# Altium footprint library CON_Vertical 20X2_Ribbon.PcbLib: 1 footprints
Each footprint in its own frame and in the unit in brackets; x right, y up, seen from the top. Pads: shape width x height; smd on the part's side, far side on the other; paste and mask are expansions set on the pad; w line width, h text height; cw(c..) or ccw(c..) is an arc to the next point about the centre after c.
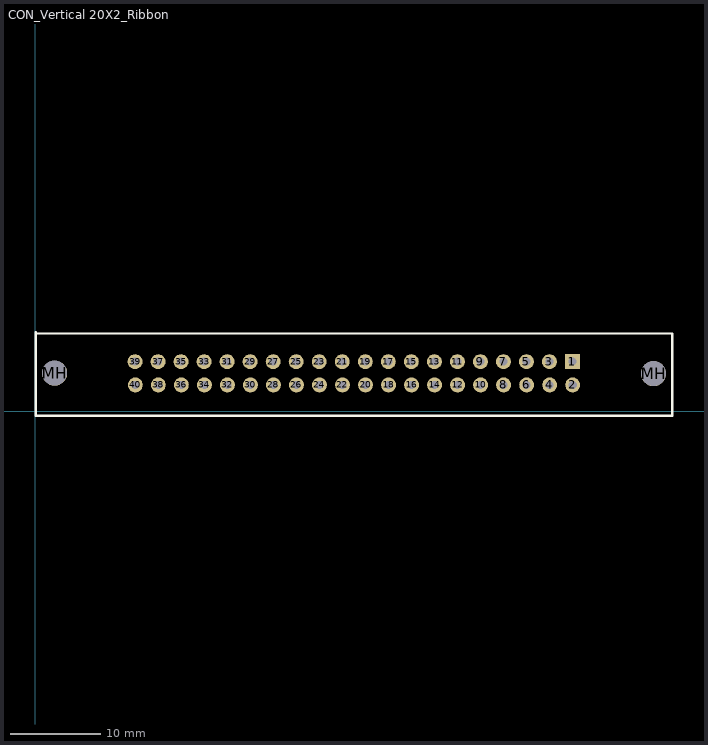
[diagram p0: the footprint, top view; thin cyan lines are the x and y axes]

## CON_Vertical 20X2_Ribbon [mil] "40 Pin Ribbon Connector"
pads (42):
  rect 65x65 hole 35: 1(2333,215)
  round 65 hole 35: 2(2334,114) 3(2233,215) 4(2234,114) 5(2133,215) 6(2134,114) 7(2033,215) 8(2034,114) 9(1933,215) 10(1934,114) 11(1833,215) 12(1834,114) 13(1733,215) 14(1734,114) 15(1633,215) 16(1634,114) 17(1533,215) 18(1534,114) 19(1433,215) 20(1434,114) 21(1333,215) 22(1334,114) 23(1233,215) 24(1234,114) 25(1133,215) 26(1134,114) 27(1033,215) 28(1034,114) 29(933,215) 30(934,114) 31(833,215) 32(834,114) 33(733,215) 34(734,114) 35(633,215) 36(634,114) 37(533,215) 38(534,114) 39(433,215) 40(434,114)
  round 109 hole 109: MH(84,165) MH(2685,163)
Top Overlay:
  lines w10: 2,-20 2766,-20 2766,337 8,337 2,343 2,-20
3D body: height 918.81, standoff -107.09, extent 4.09,-15.13 2763.93,331.32